# Altium integrated library National Semiconductor Switch Caps.IntLib: 108 symbols (part 1 of 3)
Pins are listed as number, name and electrical type; pins without a type are passive.

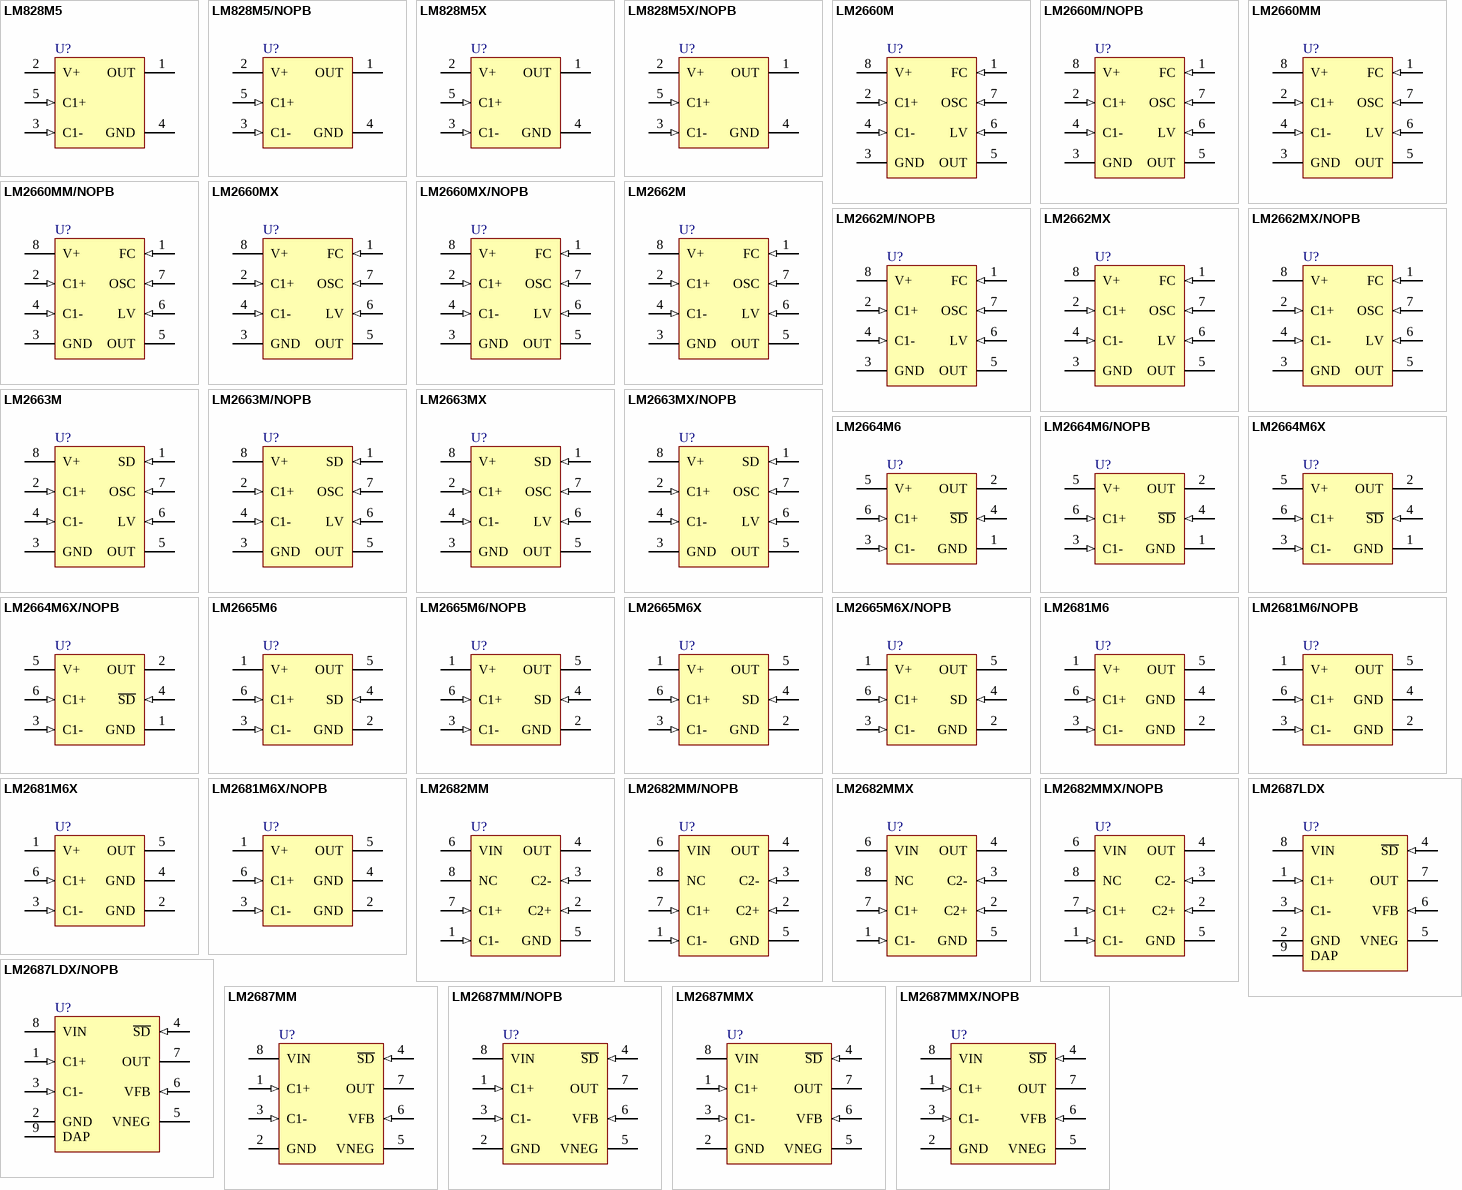
[diagram p0: symbols LM828M5 to LM2687MMX/NOPB]

## LM828M5
designator U?
Switched Capacitor Voltage Converter, 5-pin SOT-23; PartNumber: LM828M5; Manufacturer: National Semiconductor; PackageTopMarking: S08A*XTT; PowerWise: N; CompType: Switch Caps; High-Reliability: Y; DatasheetVersion: Mar-2010; PackageVersion: revD, Aug-2008; PackageReference: MF05A; PackageDescription: Molded SOT-23, .115 x .063 x .040 in Body, 5 Lead, .0375 in Pitch; RoHS: N; PinCount: 5; ComponentLink1Description: Manufacturer URL; ComponentLink1URL: http://www.national.com/; ComponentLink2Description: LM828 Datasheet; ComponentLink2URL: http://www.national.com/ds/LM/LM828.pdf; ComponentLink3Description: LM828 Web Page; ComponentLink3URL: http://www.national.com/pf/LM/LM828.html; ComponentLink4Description: MF05A Package Page; ComponentLink4URL: http://www.national.com/packaging/folders/mf05a.html
footprint MF05A_N (SOT23, 5-Leads, Body 2.9x1.6mm, Pitch 0.95mm, Lead Span 2.8mm, IPC Medium Density)
footprint MF05A_L (SOT23, 5-Leads, Body 2.9x1.6mm, Pitch 0.95mm, Lead Span 2.8mm, IPC High Density)
footprint MF05A_M (SOT23, 5-Leads, Body 2.9x1.6mm, Pitch 0.95mm, Lead Span 2.8mm, IPC Low Density)
pins: 1 OUT (power), 2 V+ (power), 3 C1- (in), 4 GND (power), 5 C1+ (in)

## LM828M5/NOPB
designator U?
Switched Capacitor Voltage Converter, 5-pin SOT-23, Pb-Free; PartNumber: LM828M5/NOPB; Manufacturer: National Semiconductor; PackageTopMarking: S08A*XTT; PowerWise: N; CompType: Switch Caps; High-Reliability: Y; DatasheetVersion: Mar-2010; PackageVersion: revD, Aug-2008; PackageReference: MF05A; PackageDescription: Molded SOT-23, .115 x .063 x .040 in Body, 5 Lead, .0375 in Pitch; RoHS: Y; PinCount: 5; ComponentLink1Description: Manufacturer URL; ComponentLink1URL: http://www.national.com/; ComponentLink2Description: LM828 Datasheet; ComponentLink2URL: http://www.national.com/ds/LM/LM828.pdf; ComponentLink3Description: LM828 Web Page; ComponentLink3URL: http://www.national.com/pf/LM/LM828.html; ComponentLink4Description: MF05A Package Page; ComponentLink4URL: http://www.national.com/packaging/folders/mf05a.html
footprint MF05A_N (SOT23, 5-Leads, Body 2.9x1.6mm, Pitch 0.95mm, Lead Span 2.8mm, IPC Medium Density)
footprint MF05A_L (SOT23, 5-Leads, Body 2.9x1.6mm, Pitch 0.95mm, Lead Span 2.8mm, IPC High Density)
footprint MF05A_M (SOT23, 5-Leads, Body 2.9x1.6mm, Pitch 0.95mm, Lead Span 2.8mm, IPC Low Density)
pins: 1 OUT (power), 2 V+ (power), 3 C1- (in), 4 GND (power), 5 C1+ (in)

## LM828M5X
designator U?
Switched Capacitor Voltage Converter, 5-pin SOT-23; PartNumber: LM828M5X; Manufacturer: National Semiconductor; PackageTopMarking: S08A*XTT; PowerWise: N; CompType: Switch Caps; High-Reliability: Y; DatasheetVersion: Mar-2010; PackageVersion: revD, Aug-2008; PackageReference: MF05A; PackageDescription: Molded SOT-23, .115 x .063 x .040 in Body, 5 Lead, .0375 in Pitch; RoHS: N; PinCount: 5; ComponentLink1Description: Manufacturer URL; ComponentLink1URL: http://www.national.com/; ComponentLink2Description: LM828 Datasheet; ComponentLink2URL: http://www.national.com/ds/LM/LM828.pdf; ComponentLink3Description: LM828 Web Page; ComponentLink3URL: http://www.national.com/pf/LM/LM828.html; ComponentLink4Description: MF05A Package Page; ComponentLink4URL: http://www.national.com/packaging/folders/mf05a.html
footprint MF05A_N (SOT23, 5-Leads, Body 2.9x1.6mm, Pitch 0.95mm, Lead Span 2.8mm, IPC Medium Density)
footprint MF05A_L (SOT23, 5-Leads, Body 2.9x1.6mm, Pitch 0.95mm, Lead Span 2.8mm, IPC High Density)
footprint MF05A_M (SOT23, 5-Leads, Body 2.9x1.6mm, Pitch 0.95mm, Lead Span 2.8mm, IPC Low Density)
pins: 1 OUT (power), 2 V+ (power), 3 C1- (in), 4 GND (power), 5 C1+ (in)

## LM828M5X/NOPB
designator U?
Switched Capacitor Voltage Converter, 5-pin SOT-23, Pb-Free; PartNumber: LM828M5X/NOPB; Manufacturer: National Semiconductor; PackageTopMarking: S08A*XTT; PowerWise: N; CompType: Switch Caps; High-Reliability: Y; DatasheetVersion: Mar-2010; PackageVersion: revD, Aug-2008; PackageReference: MF05A; PackageDescription: Molded SOT-23, .115 x .063 x .040 in Body, 5 Lead, .0375 in Pitch; RoHS: Y; PinCount: 5; ComponentLink1Description: Manufacturer URL; ComponentLink1URL: http://www.national.com/; ComponentLink2Description: LM828 Datasheet; ComponentLink2URL: http://www.national.com/ds/LM/LM828.pdf; ComponentLink3Description: LM828 Web Page; ComponentLink3URL: http://www.national.com/pf/LM/LM828.html; ComponentLink4Description: MF05A Package Page; ComponentLink4URL: http://www.national.com/packaging/folders/mf05a.html
footprint MF05A_N (SOT23, 5-Leads, Body 2.9x1.6mm, Pitch 0.95mm, Lead Span 2.8mm, IPC Medium Density)
footprint MF05A_L (SOT23, 5-Leads, Body 2.9x1.6mm, Pitch 0.95mm, Lead Span 2.8mm, IPC High Density)
footprint MF05A_M (SOT23, 5-Leads, Body 2.9x1.6mm, Pitch 0.95mm, Lead Span 2.8mm, IPC Low Density)
pins: 1 OUT (power), 2 V+ (power), 3 C1- (in), 4 GND (power), 5 C1+ (in)

## LM2660M
designator U?
Switched Capacitor Voltage Converter, 8-pin Narrow SOIC; PartNumber: LM2660M; Manufacturer: National Semiconductor; PackageTopMarking: NSZXTT*LM26*60M; PowerWise: N; CompType: Switch Caps; High-Reliability: Y; DatasheetVersion: Sep-1999; PackageVersion: revM, May-2009; PackageReference: M08A; PackageDescription: SOIC Narrow, 4.9 x 3.9 x 1.45mm, 8 Lead, 1.27mm Pitch; RoHS: N; PinCount: 8; Code_JEDEC: MS-012-AA; Code_IPC: SOIC127P600-8; ComponentLink1Description: Manufacturer URL; ComponentLink1URL: http://www.national.com/; ComponentLink2Description: LM2660 Datasheet; ComponentLink2URL: http://www.national.com/ds/LM/LM2660.pdf; ComponentLink3Description: LM2660 Web Page; ComponentLink3URL: http://www.national.com/pf/LM/LM2660.html; ComponentLink4Description: M08A Package Page; ComponentLink4URL: http://www.national.com/packaging/folders/m08a.html
footprint M08A_N (SOIC, 8-Leads, Body 4.9x3.9mm, Pitch 1.27mm, IPC Medium Density)
footprint M08A_L (SOIC, 8-Leads, Body 4.9x3.9mm, Pitch 1.27mm, IPC High Density)
footprint M08A_M (SOIC, 8-Leads, Body 4.9x3.9mm, Pitch 1.27mm, IPC Low Density)
pins: 1 FC (in), 2 C1+ (in), 3 GND (power), 4 C1- (in), 5 OUT (power), 6 LV (in), 7 OSC (in), 8 V+ (power)

## LM2660M/NOPB
designator U?
Switched Capacitor Voltage Converter, 8-pin Narrow SOIC, Pb-Free; PartNumber: LM2660M/NOPB; Manufacturer: National Semiconductor; PackageTopMarking: NSZXTT*LM26*60M; PowerWise: N; CompType: Switch Caps; High-Reliability: Y; DatasheetVersion: Sep-1999; PackageVersion: revM, May-2009; PackageReference: M08A; PackageDescription: SOIC Narrow, 4.9 x 3.9 x 1.45mm, 8 Lead, 1.27mm Pitch; RoHS: Y; PinCount: 8; Code_JEDEC: MS-012-AA; Code_IPC: SOIC127P600-8; ComponentLink1Description: Manufacturer URL; ComponentLink1URL: http://www.national.com/; ComponentLink2Description: LM2660 Datasheet; ComponentLink2URL: http://www.national.com/ds/LM/LM2660.pdf; ComponentLink3Description: LM2660 Web Page; ComponentLink3URL: http://www.national.com/pf/LM/LM2660.html; ComponentLink4Description: M08A Package Page; ComponentLink4URL: http://www.national.com/packaging/folders/m08a.html
footprint M08A_N (SOIC, 8-Leads, Body 4.9x3.9mm, Pitch 1.27mm, IPC Medium Density)
footprint M08A_L (SOIC, 8-Leads, Body 4.9x3.9mm, Pitch 1.27mm, IPC High Density)
footprint M08A_M (SOIC, 8-Leads, Body 4.9x3.9mm, Pitch 1.27mm, IPC Low Density)
pins: 1 FC (in), 2 C1+ (in), 3 GND (power), 4 C1- (in), 5 OUT (power), 6 LV (in), 7 OSC (in), 8 V+ (power)

## LM2660MM
designator U?
Switched Capacitor Voltage Converter, 8-pin Mini SOIC; PartNumber: LM2660MM; Manufacturer: National Semiconductor; PackageTopMarking: ZXTT*S01A; PowerWise: N; CompType: Switch Caps; High-Reliability: Y; DatasheetVersion: Sep-1999; PackageVersion: revF, Apr-2008; PackageReference: MUA08A; PackageDescription: MINI SOIC, .118 x .118 x .034in, 8 Lead, .0256in Pitch; RoHS: N; PinCount: 8; Code_JEDEC: MO-187-AA; ComponentLink1Description: Manufacturer URL; ComponentLink1URL: http://www.national.com/; ComponentLink2Description: LM2660 Datasheet; ComponentLink2URL: http://www.national.com/ds/LM/LM2660.pdf; ComponentLink3Description: LM2660 Web Page; ComponentLink3URL: http://www.national.com/pf/LM/LM2660.html; ComponentLink4Description: MUA08A Package Page; ComponentLink4URL: http://www.national.com/packaging/folders/mua08a.html
footprint MUA08A_N (TSOP, 8-Leads, Body 3x3mm, Pitch 0.65mm, IPC Medium Density)
footprint MUA08A_L (TSOP, 8-Leads, Body 3x3mm, Pitch 0.65mm, IPC High Density)
footprint MUA08A_M (TSOP, 8-Leads, Body 3x3mm, Pitch 0.65mm, IPC Low Density)
pins: 1 FC (in), 2 C1+ (in), 3 GND (power), 4 C1- (in), 5 OUT (power), 6 LV (in), 7 OSC (in), 8 V+ (power)

## LM2660MM/NOPB
designator U?
Switched Capacitor Voltage Converter, 8-pin Mini SOIC, Pb-Free; PartNumber: LM2660MM/NOPB; Manufacturer: National Semiconductor; PackageTopMarking: ZXTT*S01A; PowerWise: N; CompType: Switch Caps; High-Reliability: Y; DatasheetVersion: Sep-1999; PackageVersion: revF, Apr-2008; PackageReference: MUA08A; PackageDescription: MINI SOIC, .118 x .118 x .034in, 8 Lead, .0256in Pitch; RoHS: Y; PinCount: 8; Code_JEDEC: MO-187-AA; ComponentLink1Description: Manufacturer URL; ComponentLink1URL: http://www.national.com/; ComponentLink2Description: LM2660 Datasheet; ComponentLink2URL: http://www.national.com/ds/LM/LM2660.pdf; ComponentLink3Description: LM2660 Web Page; ComponentLink3URL: http://www.national.com/pf/LM/LM2660.html; ComponentLink4Description: MUA08A Package Page; ComponentLink4URL: http://www.national.com/packaging/folders/mua08a.html
footprint MUA08A_N (TSOP, 8-Leads, Body 3x3mm, Pitch 0.65mm, IPC Medium Density)
footprint MUA08A_L (TSOP, 8-Leads, Body 3x3mm, Pitch 0.65mm, IPC High Density)
footprint MUA08A_M (TSOP, 8-Leads, Body 3x3mm, Pitch 0.65mm, IPC Low Density)
pins: 1 FC (in), 2 C1+ (in), 3 GND (power), 4 C1- (in), 5 OUT (power), 6 LV (in), 7 OSC (in), 8 V+ (power)

## LM2660MX
designator U?
Switched Capacitor Voltage Converter, 8-pin Narrow SOIC; PartNumber: LM2660MX; Manufacturer: National Semiconductor; PackageTopMarking: NSZXTT*LM26*60M; PowerWise: N; CompType: Switch Caps; High-Reliability: Y; DatasheetVersion: Sep-1999; PackageVersion: revM, May-2009; PackageReference: M08A; PackageDescription: SOIC Narrow, 4.9 x 3.9 x 1.45mm, 8 Lead, 1.27mm Pitch; RoHS: N; PinCount: 8; Code_JEDEC: MS-012-AA; Code_IPC: SOIC127P600-8; ComponentLink1Description: Manufacturer URL; ComponentLink1URL: http://www.national.com/; ComponentLink2Description: LM2660 Datasheet; ComponentLink2URL: http://www.national.com/ds/LM/LM2660.pdf; ComponentLink3Description: LM2660 Web Page; ComponentLink3URL: http://www.national.com/pf/LM/LM2660.html; ComponentLink4Description: M08A Package Page; ComponentLink4URL: http://www.national.com/packaging/folders/m08a.html
footprint M08A_N (SOIC, 8-Leads, Body 4.9x3.9mm, Pitch 1.27mm, IPC Medium Density)
footprint M08A_L (SOIC, 8-Leads, Body 4.9x3.9mm, Pitch 1.27mm, IPC High Density)
footprint M08A_M (SOIC, 8-Leads, Body 4.9x3.9mm, Pitch 1.27mm, IPC Low Density)
pins: 1 FC (in), 2 C1+ (in), 3 GND (power), 4 C1- (in), 5 OUT (power), 6 LV (in), 7 OSC (in), 8 V+ (power)

## LM2660MX/NOPB
designator U?
Switched Capacitor Voltage Converter, 8-pin Narrow SOIC, Pb-Free; PartNumber: LM2660MX/NOPB; Manufacturer: National Semiconductor; PackageTopMarking: NSZXTT*LM26*60M; PowerWise: N; CompType: Switch Caps; High-Reliability: Y; DatasheetVersion: Sep-1999; PackageVersion: revM, May-2009; PackageReference: M08A; PackageDescription: SOIC Narrow, 4.9 x 3.9 x 1.45mm, 8 Lead, 1.27mm Pitch; RoHS: Y; PinCount: 8; Code_JEDEC: MS-012-AA; Code_IPC: SOIC127P600-8; ComponentLink1Description: Manufacturer URL; ComponentLink1URL: http://www.national.com/; ComponentLink2Description: LM2660 Datasheet; ComponentLink2URL: http://www.national.com/ds/LM/LM2660.pdf; ComponentLink3Description: LM2660 Web Page; ComponentLink3URL: http://www.national.com/pf/LM/LM2660.html; ComponentLink4Description: M08A Package Page; ComponentLink4URL: http://www.national.com/packaging/folders/m08a.html
footprint M08A_N (SOIC, 8-Leads, Body 4.9x3.9mm, Pitch 1.27mm, IPC Medium Density)
footprint M08A_L (SOIC, 8-Leads, Body 4.9x3.9mm, Pitch 1.27mm, IPC High Density)
footprint M08A_M (SOIC, 8-Leads, Body 4.9x3.9mm, Pitch 1.27mm, IPC Low Density)
pins: 1 FC (in), 2 C1+ (in), 3 GND (power), 4 C1- (in), 5 OUT (power), 6 LV (in), 7 OSC (in), 8 V+ (power)

## LM2662M
designator U?
Switched Capacitor Voltage Converter, 8-pin Narrow SOIC; PartNumber: LM2662M; Manufacturer: National Semiconductor; PackageTopMarking: NSZXTT*LM26*62M; PowerWise: N; CompType: Switch Caps; High-Reliability: Y; DatasheetVersion: Jun-2008; PackageVersion: revM, May-2009; PackageReference: M08A; PackageDescription: SOIC Narrow, 4.9 x 3.9 x 1.45mm, 8 Lead, 1.27mm Pitch; RoHS: N; PinCount: 8; Code_JEDEC: MS-012-AA; Code_IPC: SOIC127P600-8; ComponentLink1Description: Manufacturer URL; ComponentLink1URL: http://www.national.com/; ComponentLink2Description: LM2662 Datasheet; ComponentLink2URL: http://www.national.com/ds/LM/LM2662.pdf; ComponentLink3Description: LM2662 Web Page; ComponentLink3URL: http://www.national.com/pf/LM/LM2662.html; ComponentLink4Description: M08A Package Page; ComponentLink4URL: http://www.national.com/packaging/folders/m08a.html
footprint M08A_N (SOIC, 8-Leads, Body 4.9x3.9mm, Pitch 1.27mm, IPC Medium Density)
footprint M08A_L (SOIC, 8-Leads, Body 4.9x3.9mm, Pitch 1.27mm, IPC High Density)
footprint M08A_M (SOIC, 8-Leads, Body 4.9x3.9mm, Pitch 1.27mm, IPC Low Density)
pins: 1 FC (in), 2 C1+ (in), 3 GND (power), 4 C1- (in), 5 OUT (power), 6 LV (in), 7 OSC (in), 8 V+ (power)

## LM2662M/NOPB
designator U?
Switched Capacitor Voltage Converter, 8-pin Narrow SOIC, Pb-Free; PartNumber: LM2662M/NOPB; Manufacturer: National Semiconductor; PackageTopMarking: NSZXTT*LM26*62M; PowerWise: N; CompType: Switch Caps; High-Reliability: Y; DatasheetVersion: Jun-2008; PackageVersion: revM, May-2009; PackageReference: M08A; PackageDescription: SOIC Narrow, 4.9 x 3.9 x 1.45mm, 8 Lead, 1.27mm Pitch; RoHS: Y; PinCount: 8; Code_JEDEC: MS-012-AA; Code_IPC: SOIC127P600-8; ComponentLink1Description: Manufacturer URL; ComponentLink1URL: http://www.national.com/; ComponentLink2Description: LM2662 Datasheet; ComponentLink2URL: http://www.national.com/ds/LM/LM2662.pdf; ComponentLink3Description: LM2662 Web Page; ComponentLink3URL: http://www.national.com/pf/LM/LM2662.html; ComponentLink4Description: M08A Package Page; ComponentLink4URL: http://www.national.com/packaging/folders/m08a.html
footprint M08A_N (SOIC, 8-Leads, Body 4.9x3.9mm, Pitch 1.27mm, IPC Medium Density)
footprint M08A_L (SOIC, 8-Leads, Body 4.9x3.9mm, Pitch 1.27mm, IPC High Density)
footprint M08A_M (SOIC, 8-Leads, Body 4.9x3.9mm, Pitch 1.27mm, IPC Low Density)
pins: 1 FC (in), 2 C1+ (in), 3 GND (power), 4 C1- (in), 5 OUT (power), 6 LV (in), 7 OSC (in), 8 V+ (power)

## LM2662MX
designator U?
Switched Capacitor Voltage Converter, 8-pin Narrow SOIC; PartNumber: LM2662MX; Manufacturer: National Semiconductor; PackageTopMarking: NSZXTT*LM26*62M; PowerWise: N; CompType: Switch Caps; High-Reliability: Y; DatasheetVersion: Jun-2008; PackageVersion: revM, May-2009; PackageReference: M08A; PackageDescription: SOIC Narrow, 4.9 x 3.9 x 1.45mm, 8 Lead, 1.27mm Pitch; RoHS: N; PinCount: 8; Code_JEDEC: MS-012-AA; Code_IPC: SOIC127P600-8; ComponentLink1Description: Manufacturer URL; ComponentLink1URL: http://www.national.com/; ComponentLink2Description: LM2662 Datasheet; ComponentLink2URL: http://www.national.com/ds/LM/LM2662.pdf; ComponentLink3Description: LM2662 Web Page; ComponentLink3URL: http://www.national.com/pf/LM/LM2662.html; ComponentLink4Description: M08A Package Page; ComponentLink4URL: http://www.national.com/packaging/folders/m08a.html
footprint M08A_N (SOIC, 8-Leads, Body 4.9x3.9mm, Pitch 1.27mm, IPC Medium Density)
footprint M08A_L (SOIC, 8-Leads, Body 4.9x3.9mm, Pitch 1.27mm, IPC High Density)
footprint M08A_M (SOIC, 8-Leads, Body 4.9x3.9mm, Pitch 1.27mm, IPC Low Density)
pins: 1 FC (in), 2 C1+ (in), 3 GND (power), 4 C1- (in), 5 OUT (power), 6 LV (in), 7 OSC (in), 8 V+ (power)

## LM2662MX/NOPB
designator U?
Switched Capacitor Voltage Converter, 8-pin Narrow SOIC, Pb-Free; PartNumber: LM2662MX/NOPB; Manufacturer: National Semiconductor; PackageTopMarking: NSZXTT*LM26*62M; PowerWise: N; CompType: Switch Caps; High-Reliability: Y; DatasheetVersion: Jun-2008; PackageVersion: revM, May-2009; PackageReference: M08A; PackageDescription: SOIC Narrow, 4.9 x 3.9 x 1.45mm, 8 Lead, 1.27mm Pitch; RoHS: Y; PinCount: 8; Code_JEDEC: MS-012-AA; Code_IPC: SOIC127P600-8; ComponentLink1Description: Manufacturer URL; ComponentLink1URL: http://www.national.com/; ComponentLink2Description: LM2662 Datasheet; ComponentLink2URL: http://www.national.com/ds/LM/LM2662.pdf; ComponentLink3Description: LM2662 Web Page; ComponentLink3URL: http://www.national.com/pf/LM/LM2662.html; ComponentLink4Description: M08A Package Page; ComponentLink4URL: http://www.national.com/packaging/folders/m08a.html
footprint M08A_N (SOIC, 8-Leads, Body 4.9x3.9mm, Pitch 1.27mm, IPC Medium Density)
footprint M08A_L (SOIC, 8-Leads, Body 4.9x3.9mm, Pitch 1.27mm, IPC High Density)
footprint M08A_M (SOIC, 8-Leads, Body 4.9x3.9mm, Pitch 1.27mm, IPC Low Density)
pins: 1 FC (in), 2 C1+ (in), 3 GND (power), 4 C1- (in), 5 OUT (power), 6 LV (in), 7 OSC (in), 8 V+ (power)

## LM2663M
designator U?
Switched Capacitor Voltage Converter, 8-pin Narrow SOIC; PartNumber: LM2663M; Manufacturer: National Semiconductor; PackageTopMarking: NSZXTT*LM26*63M; PowerWise: N; CompType: Switch Caps; High-Reliability: Y; DatasheetVersion: Jun-2008; PackageVersion: revM, May-2009; PackageReference: M08A; PackageDescription: SOIC Narrow, 4.9 x 3.9 x 1.45mm, 8 Lead, 1.27mm Pitch; RoHS: N; PinCount: 8; Code_JEDEC: MS-012-AA; Code_IPC: SOIC127P600-8; ComponentLink1Description: Manufacturer URL; ComponentLink1URL: http://www.national.com/; ComponentLink2Description: LM2663 Datasheet; ComponentLink2URL: http://www.national.com/ds/LM/LM2663.pdf; ComponentLink3Description: LM2663 Web Page; ComponentLink3URL: http://www.national.com/pf/LM/LM2663.html; ComponentLink4Description: M08A Package Page; ComponentLink4URL: http://www.national.com/packaging/folders/m08a.html
footprint M08A_N (SOIC, 8-Leads, Body 4.9x3.9mm, Pitch 1.27mm, IPC Medium Density)
footprint M08A_L (SOIC, 8-Leads, Body 4.9x3.9mm, Pitch 1.27mm, IPC High Density)
footprint M08A_M (SOIC, 8-Leads, Body 4.9x3.9mm, Pitch 1.27mm, IPC Low Density)
pins: 1 SD (in), 2 C1+ (in), 3 GND (power), 4 C1- (in), 5 OUT (power), 6 LV (in), 7 OSC (in), 8 V+ (power)

## LM2663M/NOPB
designator U?
Switched Capacitor Voltage Converter, 8-pin Narrow SOIC, Pb-Free; PartNumber: LM2663M/NOPB; Manufacturer: National Semiconductor; PackageTopMarking: NSZXTT*LM26*63M; PowerWise: N; CompType: Switch Caps; High-Reliability: Y; DatasheetVersion: Jun-2008; PackageVersion: revM, May-2009; PackageReference: M08A; PackageDescription: SOIC Narrow, 4.9 x 3.9 x 1.45mm, 8 Lead, 1.27mm Pitch; RoHS: Y; PinCount: 8; Code_JEDEC: MS-012-AA; Code_IPC: SOIC127P600-8; ComponentLink1Description: Manufacturer URL; ComponentLink1URL: http://www.national.com/; ComponentLink2Description: LM2663 Datasheet; ComponentLink2URL: http://www.national.com/ds/LM/LM2663.pdf; ComponentLink3Description: LM2663 Web Page; ComponentLink3URL: http://www.national.com/pf/LM/LM2663.html; ComponentLink4Description: M08A Package Page; ComponentLink4URL: http://www.national.com/packaging/folders/m08a.html
footprint M08A_N (SOIC, 8-Leads, Body 4.9x3.9mm, Pitch 1.27mm, IPC Medium Density)
footprint M08A_L (SOIC, 8-Leads, Body 4.9x3.9mm, Pitch 1.27mm, IPC High Density)
footprint M08A_M (SOIC, 8-Leads, Body 4.9x3.9mm, Pitch 1.27mm, IPC Low Density)
pins: 1 SD (in), 2 C1+ (in), 3 GND (power), 4 C1- (in), 5 OUT (power), 6 LV (in), 7 OSC (in), 8 V+ (power)

## LM2663MX
designator U?
Switched Capacitor Voltage Converter, 8-pin Narrow SOIC; PartNumber: LM2663MX; Manufacturer: National Semiconductor; PackageTopMarking: NSZXTT*LM26*63M; PowerWise: N; CompType: Switch Caps; High-Reliability: Y; DatasheetVersion: Jun-2008; PackageVersion: revM, May-2009; PackageReference: M08A; PackageDescription: SOIC Narrow, 4.9 x 3.9 x 1.45mm, 8 Lead, 1.27mm Pitch; RoHS: N; PinCount: 8; Code_JEDEC: MS-012-AA; Code_IPC: SOIC127P600-8; ComponentLink1Description: Manufacturer URL; ComponentLink1URL: http://www.national.com/; ComponentLink2Description: LM2663 Datasheet; ComponentLink2URL: http://www.national.com/ds/LM/LM2663.pdf; ComponentLink3Description: LM2663 Web Page; ComponentLink3URL: http://www.national.com/pf/LM/LM2663.html; ComponentLink4Description: M08A Package Page; ComponentLink4URL: http://www.national.com/packaging/folders/m08a.html
footprint M08A_N (SOIC, 8-Leads, Body 4.9x3.9mm, Pitch 1.27mm, IPC Medium Density)
footprint M08A_L (SOIC, 8-Leads, Body 4.9x3.9mm, Pitch 1.27mm, IPC High Density)
footprint M08A_M (SOIC, 8-Leads, Body 4.9x3.9mm, Pitch 1.27mm, IPC Low Density)
pins: 1 SD (in), 2 C1+ (in), 3 GND (power), 4 C1- (in), 5 OUT (power), 6 LV (in), 7 OSC (in), 8 V+ (power)

## LM2663MX/NOPB
designator U?
Switched Capacitor Voltage Converter, 8-pin Narrow SOIC, Pb-Free; PartNumber: LM2663MX/NOPB; Manufacturer: National Semiconductor; PackageTopMarking: NSZXTT*LM26*63M; PowerWise: N; CompType: Switch Caps; High-Reliability: Y; DatasheetVersion: Jun-2008; PackageVersion: revM, May-2009; PackageReference: M08A; PackageDescription: SOIC Narrow, 4.9 x 3.9 x 1.45mm, 8 Lead, 1.27mm Pitch; RoHS: Y; PinCount: 8; Code_JEDEC: MS-012-AA; Code_IPC: SOIC127P600-8; ComponentLink1Description: Manufacturer URL; ComponentLink1URL: http://www.national.com/; ComponentLink2Description: LM2663 Datasheet; ComponentLink2URL: http://www.national.com/ds/LM/LM2663.pdf; ComponentLink3Description: LM2663 Web Page; ComponentLink3URL: http://www.national.com/pf/LM/LM2663.html; ComponentLink4Description: M08A Package Page; ComponentLink4URL: http://www.national.com/packaging/folders/m08a.html
footprint M08A_N (SOIC, 8-Leads, Body 4.9x3.9mm, Pitch 1.27mm, IPC Medium Density)
footprint M08A_L (SOIC, 8-Leads, Body 4.9x3.9mm, Pitch 1.27mm, IPC High Density)
footprint M08A_M (SOIC, 8-Leads, Body 4.9x3.9mm, Pitch 1.27mm, IPC Low Density)
pins: 1 SD (in), 2 C1+ (in), 3 GND (power), 4 C1- (in), 5 OUT (power), 6 LV (in), 7 OSC (in), 8 V+ (power)

## LM2664M6
designator U?
Switched Capacitor Voltage Converter, 6-pin SOT-23; PartNumber: LM2664M6; Manufacturer: National Semiconductor; PackageTopMarking: S03A*XTT; PowerWise: N; CompType: Switch Caps; High-Reliability: Y; DatasheetVersion: Sep-2005; PackageVersion: revC, Sep-2005; PackageReference: MF06A; PackageDescription: Molded SOT-23, .115 x .063 x .040in Body, 6 Lead, .0375in in Pitch; RoHS: N; PinCount: 6; Code_JEDEC: MO-178-AB; Code_IPC: SOT26A-6; ComponentLink1Description: Manufacturer URL; ComponentLink1URL: http://www.national.com/; ComponentLink2Description: LM2664 Datasheet; ComponentLink2URL: http://www.national.com/ds/LM/LM2664.pdf; ComponentLink3Description: LM2664 Web Page; ComponentLink3URL: http://www.national.com/pf/LM/LM2664.html; ComponentLink4Description: MF06A Package Page; ComponentLink4URL: http://www.national.com/packaging/folders/mf06a.html
footprint MF06A_N (SOT23, 6-Leads, Body 2.9x1.6mm, Pitch 0.95mm, Lead Span 2.8mm, IPC Medium Density)
footprint MF06A_L (SOT23, 6-Leads, Body 2.9x1.6mm, Pitch 0.95mm, Lead Span 2.8mm, IPC High Density)
footprint MF06A_M (SOT23, 6-Leads, Body 2.9x1.6mm, Pitch 0.95mm, Lead Span 2.8mm, IPC Low Density)
pins: 1 GND (power), 2 OUT (power), 3 C1- (in), 4 ~{SD} (in), 5 V+ (power), 6 C1+ (in)

## LM2664M6/NOPB
designator U?
Switched Capacitor Voltage Converter, 6-pin SOT-23, Pb-Free; PartNumber: LM2664M6/NOPB; Manufacturer: National Semiconductor; PackageTopMarking: S03A*XTT; PowerWise: N; CompType: Switch Caps; High-Reliability: Y; DatasheetVersion: Sep-2005; PackageVersion: revC, Sep-2005; PackageReference: MF06A; PackageDescription: Molded SOT-23, .115 x .063 x .040in Body, 6 Lead, .0375in in Pitch; RoHS: Y; PinCount: 6; Code_JEDEC: MO-178-AB; Code_IPC: SOT26A-6; ComponentLink1Description: Manufacturer URL; ComponentLink1URL: http://www.national.com/; ComponentLink2Description: LM2664 Datasheet; ComponentLink2URL: http://www.national.com/ds/LM/LM2664.pdf; ComponentLink3Description: LM2664 Web Page; ComponentLink3URL: http://www.national.com/pf/LM/LM2664.html; ComponentLink4Description: MF06A Package Page; ComponentLink4URL: http://www.national.com/packaging/folders/mf06a.html
footprint MF06A_N (SOT23, 6-Leads, Body 2.9x1.6mm, Pitch 0.95mm, Lead Span 2.8mm, IPC Medium Density)
footprint MF06A_L (SOT23, 6-Leads, Body 2.9x1.6mm, Pitch 0.95mm, Lead Span 2.8mm, IPC High Density)
footprint MF06A_M (SOT23, 6-Leads, Body 2.9x1.6mm, Pitch 0.95mm, Lead Span 2.8mm, IPC Low Density)
pins: 1 GND (power), 2 OUT (power), 3 C1- (in), 4 ~{SD} (in), 5 V+ (power), 6 C1+ (in)

## LM2664M6X
designator U?
Switched Capacitor Voltage Converter, 6-pin SOT-23; PartNumber: LM2664M6X; Manufacturer: National Semiconductor; PackageTopMarking: S03A*XTT; PowerWise: N; CompType: Switch Caps; High-Reliability: Y; DatasheetVersion: Sep-2005; PackageVersion: revC, Sep-2005; PackageReference: MF06A; PackageDescription: Molded SOT-23, .115 x .063 x .040in Body, 6 Lead, .0375in in Pitch; RoHS: N; PinCount: 6; Code_JEDEC: MO-178-AB; Code_IPC: SOT26A-6; ComponentLink1Description: Manufacturer URL; ComponentLink1URL: http://www.national.com/; ComponentLink2Description: LM2664 Datasheet; ComponentLink2URL: http://www.national.com/ds/LM/LM2664.pdf; ComponentLink3Description: LM2664 Web Page; ComponentLink3URL: http://www.national.com/pf/LM/LM2664.html; ComponentLink4Description: MF06A Package Page; ComponentLink4URL: http://www.national.com/packaging/folders/mf06a.html
footprint MF06A_N (SOT23, 6-Leads, Body 2.9x1.6mm, Pitch 0.95mm, Lead Span 2.8mm, IPC Medium Density)
footprint MF06A_L (SOT23, 6-Leads, Body 2.9x1.6mm, Pitch 0.95mm, Lead Span 2.8mm, IPC High Density)
footprint MF06A_M (SOT23, 6-Leads, Body 2.9x1.6mm, Pitch 0.95mm, Lead Span 2.8mm, IPC Low Density)
pins: 1 GND (power), 2 OUT (power), 3 C1- (in), 4 ~{SD} (in), 5 V+ (power), 6 C1+ (in)

## LM2664M6X/NOPB
designator U?
Switched Capacitor Voltage Converter, 6-pin SOT-23, Pb-Free; PartNumber: LM2664M6X/NOPB; Manufacturer: National Semiconductor; PackageTopMarking: S03A*XTT; PowerWise: N; CompType: Switch Caps; High-Reliability: Y; DatasheetVersion: Sep-2005; PackageVersion: revC, Sep-2005; PackageReference: MF06A; PackageDescription: Molded SOT-23, .115 x .063 x .040in Body, 6 Lead, .0375in in Pitch; RoHS: Y; PinCount: 6; Code_JEDEC: MO-178-AB; Code_IPC: SOT26A-6; ComponentLink1Description: Manufacturer URL; ComponentLink1URL: http://www.national.com/; ComponentLink2Description: LM2664 Datasheet; ComponentLink2URL: http://www.national.com/ds/LM/LM2664.pdf; ComponentLink3Description: LM2664 Web Page; ComponentLink3URL: http://www.national.com/pf/LM/LM2664.html; ComponentLink4Description: MF06A Package Page; ComponentLink4URL: http://www.national.com/packaging/folders/mf06a.html
footprint MF06A_N (SOT23, 6-Leads, Body 2.9x1.6mm, Pitch 0.95mm, Lead Span 2.8mm, IPC Medium Density)
footprint MF06A_L (SOT23, 6-Leads, Body 2.9x1.6mm, Pitch 0.95mm, Lead Span 2.8mm, IPC High Density)
footprint MF06A_M (SOT23, 6-Leads, Body 2.9x1.6mm, Pitch 0.95mm, Lead Span 2.8mm, IPC Low Density)
pins: 1 GND (power), 2 OUT (power), 3 C1- (in), 4 ~{SD} (in), 5 V+ (power), 6 C1+ (in)

## LM2665M6
designator U?
Switched Capacitor Voltage Converter, 6-pin SOT-23; PartNumber: LM2665M6; Manufacturer: National Semiconductor; PackageTopMarking: S04A*XTT; PowerWise: N; CompType: Switch Caps; High-Reliability: Y; DatasheetVersion: Sep-2005; PackageVersion: revC, Sep-2005; PackageReference: MF06A; PackageDescription: Molded SOT-23, .115 x .063 x .040in Body, 6 Lead, .0375in in Pitch; RoHS: N; PinCount: 6; Code_JEDEC: MO-178-AB; Code_IPC: SOT26A-6; ComponentLink1Description: Manufacturer URL; ComponentLink1URL: http://www.national.com/; ComponentLink2Description: LM2665 Datasheet; ComponentLink2URL: http://www.national.com/ds/LM/LM2665.pdf; ComponentLink3Description: LM2665 Web Page; ComponentLink3URL: http://www.national.com/pf/LM/LM2665.html; ComponentLink4Description: MF06A Package Page; ComponentLink4URL: http://www.national.com/packaging/folders/mf06a.html
footprint MF06A_N (SOT23, 6-Leads, Body 2.9x1.6mm, Pitch 0.95mm, Lead Span 2.8mm, IPC Medium Density)
footprint MF06A_L (SOT23, 6-Leads, Body 2.9x1.6mm, Pitch 0.95mm, Lead Span 2.8mm, IPC High Density)
footprint MF06A_M (SOT23, 6-Leads, Body 2.9x1.6mm, Pitch 0.95mm, Lead Span 2.8mm, IPC Low Density)
pins: 1 V+ (power), 2 GND (power), 3 C1- (in), 4 SD (in), 5 OUT (power), 6 C1+ (in)

## LM2665M6/NOPB
designator U?
Switched Capacitor Voltage Converter, 6-pin SOT-23, Pb-Free; PartNumber: LM2665M6/NOPB; Manufacturer: National Semiconductor; PackageTopMarking: S04A*XTT; PowerWise: N; CompType: Switch Caps; High-Reliability: Y; DatasheetVersion: Sep-2005; PackageVersion: revC, Sep-2005; PackageReference: MF06A; PackageDescription: Molded SOT-23, .115 x .063 x .040in Body, 6 Lead, .0375in in Pitch; RoHS: Y; PinCount: 6; Code_JEDEC: MO-178-AB; Code_IPC: SOT26A-6; ComponentLink1Description: Manufacturer URL; ComponentLink1URL: http://www.national.com/; ComponentLink2Description: LM2665 Datasheet; ComponentLink2URL: http://www.national.com/ds/LM/LM2665.pdf; ComponentLink3Description: LM2665 Web Page; ComponentLink3URL: http://www.national.com/pf/LM/LM2665.html; ComponentLink4Description: MF06A Package Page; ComponentLink4URL: http://www.national.com/packaging/folders/mf06a.html
footprint MF06A_N (SOT23, 6-Leads, Body 2.9x1.6mm, Pitch 0.95mm, Lead Span 2.8mm, IPC Medium Density)
footprint MF06A_L (SOT23, 6-Leads, Body 2.9x1.6mm, Pitch 0.95mm, Lead Span 2.8mm, IPC High Density)
footprint MF06A_M (SOT23, 6-Leads, Body 2.9x1.6mm, Pitch 0.95mm, Lead Span 2.8mm, IPC Low Density)
pins: 1 V+ (power), 2 GND (power), 3 C1- (in), 4 SD (in), 5 OUT (power), 6 C1+ (in)

## LM2665M6X
designator U?
Switched Capacitor Voltage Converter, 6-pin SOT-23; PartNumber: LM2665M6X; Manufacturer: National Semiconductor; PackageTopMarking: S04A*XTT; PowerWise: N; CompType: Switch Caps; High-Reliability: Y; DatasheetVersion: Sep-2005; PackageVersion: revC, Sep-2005; PackageReference: MF06A; PackageDescription: Molded SOT-23, .115 x .063 x .040in Body, 6 Lead, .0375in in Pitch; RoHS: N; PinCount: 6; Code_JEDEC: MO-178-AB; Code_IPC: SOT26A-6; ComponentLink1Description: Manufacturer URL; ComponentLink1URL: http://www.national.com/; ComponentLink2Description: LM2665 Datasheet; ComponentLink2URL: http://www.national.com/ds/LM/LM2665.pdf; ComponentLink3Description: LM2665 Web Page; ComponentLink3URL: http://www.national.com/pf/LM/LM2665.html; ComponentLink4Description: MF06A Package Page; ComponentLink4URL: http://www.national.com/packaging/folders/mf06a.html
footprint MF06A_N (SOT23, 6-Leads, Body 2.9x1.6mm, Pitch 0.95mm, Lead Span 2.8mm, IPC Medium Density)
footprint MF06A_L (SOT23, 6-Leads, Body 2.9x1.6mm, Pitch 0.95mm, Lead Span 2.8mm, IPC High Density)
footprint MF06A_M (SOT23, 6-Leads, Body 2.9x1.6mm, Pitch 0.95mm, Lead Span 2.8mm, IPC Low Density)
pins: 1 V+ (power), 2 GND (power), 3 C1- (in), 4 SD (in), 5 OUT (power), 6 C1+ (in)

## LM2665M6X/NOPB
designator U?
Switched Capacitor Voltage Converter, 6-pin SOT-23, Pb-Free; PartNumber: LM2665M6X/NOPB; Manufacturer: National Semiconductor; PackageTopMarking: S04A*XTT; PowerWise: N; CompType: Switch Caps; High-Reliability: Y; DatasheetVersion: Sep-2005; PackageVersion: revC, Sep-2005; PackageReference: MF06A; PackageDescription: Molded SOT-23, .115 x .063 x .040in Body, 6 Lead, .0375in in Pitch; RoHS: Y; PinCount: 6; Code_JEDEC: MO-178-AB; Code_IPC: SOT26A-6; ComponentLink1Description: Manufacturer URL; ComponentLink1URL: http://www.national.com/; ComponentLink2Description: LM2665 Datasheet; ComponentLink2URL: http://www.national.com/ds/LM/LM2665.pdf; ComponentLink3Description: LM2665 Web Page; ComponentLink3URL: http://www.national.com/pf/LM/LM2665.html; ComponentLink4Description: MF06A Package Page; ComponentLink4URL: http://www.national.com/packaging/folders/mf06a.html
footprint MF06A_N (SOT23, 6-Leads, Body 2.9x1.6mm, Pitch 0.95mm, Lead Span 2.8mm, IPC Medium Density)
footprint MF06A_L (SOT23, 6-Leads, Body 2.9x1.6mm, Pitch 0.95mm, Lead Span 2.8mm, IPC High Density)
footprint MF06A_M (SOT23, 6-Leads, Body 2.9x1.6mm, Pitch 0.95mm, Lead Span 2.8mm, IPC Low Density)
pins: 1 V+ (power), 2 GND (power), 3 C1- (in), 4 SD (in), 5 OUT (power), 6 C1+ (in)

## LM2681M6
designator U?
Switched Capacitor Voltage Converter, 6-pin SOT-23; PartNumber: LM2681M6; Manufacturer: National Semiconductor; PackageTopMarking: S10A*XTT; PowerWise: N; CompType: Switch Caps; High-Reliability: Y; DatasheetVersion: Jan-2003; PackageVersion: revC, Sep-2005; PackageReference: MF06A; PackageDescription: Molded SOT-23, .115 x .063 x .040in Body, 6 Lead, .0375in in Pitch; RoHS: N; PinCount: 6; Code_JEDEC: MO-178-AB; Code_IPC: SOT26A-6; ComponentLink1Description: Manufacturer URL; ComponentLink1URL: http://www.national.com/; ComponentLink2Description: LM2681 Datasheet; ComponentLink2URL: http://www.national.com/ds/LM/LM2681.pdf; ComponentLink3Description: LM2681 Web Page; ComponentLink3URL: http://www.national.com/pf/LM/LM2681.html; ComponentLink4Description: MF06A Package Page; ComponentLink4URL: http://www.national.com/packaging/folders/mf06a.html
footprint MF06A_N (SOT23, 6-Leads, Body 2.9x1.6mm, Pitch 0.95mm, Lead Span 2.8mm, IPC Medium Density)
footprint MF06A_L (SOT23, 6-Leads, Body 2.9x1.6mm, Pitch 0.95mm, Lead Span 2.8mm, IPC High Density)
footprint MF06A_M (SOT23, 6-Leads, Body 2.9x1.6mm, Pitch 0.95mm, Lead Span 2.8mm, IPC Low Density)
pins: 1 V+ (power), 2 GND (power), 3 C1- (in), 4 GND (power), 5 OUT (power), 6 C1+ (in)

## LM2681M6/NOPB
designator U?
Switched Capacitor Voltage Converter, 6-pin SOT-23, Pb-Free; PartNumber: LM2681M6/NOPB; Manufacturer: National Semiconductor; PackageTopMarking: S10A*XTT; PowerWise: N; CompType: Switch Caps; High-Reliability: Y; DatasheetVersion: Jan-2003; PackageVersion: revC, Sep-2005; PackageReference: MF06A; PackageDescription: Molded SOT-23, .115 x .063 x .040in Body, 6 Lead, .0375in in Pitch; RoHS: Y; PinCount: 6; Code_JEDEC: MO-178-AB; Code_IPC: SOT26A-6; ComponentLink1Description: Manufacturer URL; ComponentLink1URL: http://www.national.com/; ComponentLink2Description: LM2681 Datasheet; ComponentLink2URL: http://www.national.com/ds/LM/LM2681.pdf; ComponentLink3Description: LM2681 Web Page; ComponentLink3URL: http://www.national.com/pf/LM/LM2681.html; ComponentLink4Description: MF06A Package Page; ComponentLink4URL: http://www.national.com/packaging/folders/mf06a.html
footprint MF06A_N (SOT23, 6-Leads, Body 2.9x1.6mm, Pitch 0.95mm, Lead Span 2.8mm, IPC Medium Density)
footprint MF06A_L (SOT23, 6-Leads, Body 2.9x1.6mm, Pitch 0.95mm, Lead Span 2.8mm, IPC High Density)
footprint MF06A_M (SOT23, 6-Leads, Body 2.9x1.6mm, Pitch 0.95mm, Lead Span 2.8mm, IPC Low Density)
pins: 1 V+ (power), 2 GND (power), 3 C1- (in), 4 GND (power), 5 OUT (power), 6 C1+ (in)

## LM2681M6X
designator U?
Switched Capacitor Voltage Converter, 6-pin SOT-23; PartNumber: LM2681M6X; Manufacturer: National Semiconductor; PackageTopMarking: S10A*XTT; PowerWise: N; CompType: Switch Caps; High-Reliability: Y; DatasheetVersion: Jan-2003; PackageVersion: revC, Sep-2005; PackageReference: MF06A; PackageDescription: Molded SOT-23, .115 x .063 x .040in Body, 6 Lead, .0375in in Pitch; RoHS: N; PinCount: 6; Code_JEDEC: MO-178-AB; Code_IPC: SOT26A-6; ComponentLink1Description: Manufacturer URL; ComponentLink1URL: http://www.national.com/; ComponentLink2Description: LM2681 Datasheet; ComponentLink2URL: http://www.national.com/ds/LM/LM2681.pdf; ComponentLink3Description: LM2681 Web Page; ComponentLink3URL: http://www.national.com/pf/LM/LM2681.html; ComponentLink4Description: MF06A Package Page; ComponentLink4URL: http://www.national.com/packaging/folders/mf06a.html
footprint MF06A_N (SOT23, 6-Leads, Body 2.9x1.6mm, Pitch 0.95mm, Lead Span 2.8mm, IPC Medium Density)
footprint MF06A_L (SOT23, 6-Leads, Body 2.9x1.6mm, Pitch 0.95mm, Lead Span 2.8mm, IPC High Density)
footprint MF06A_M (SOT23, 6-Leads, Body 2.9x1.6mm, Pitch 0.95mm, Lead Span 2.8mm, IPC Low Density)
pins: 1 V+ (power), 2 GND (power), 3 C1- (in), 4 GND (power), 5 OUT (power), 6 C1+ (in)

## LM2681M6X/NOPB
designator U?
Switched Capacitor Voltage Converter, 6-pin SOT-23, Pb-Free; PartNumber: LM2681M6X/NOPB; Manufacturer: National Semiconductor; PackageTopMarking: S10A*XTT; PowerWise: N; CompType: Switch Caps; High-Reliability: Y; DatasheetVersion: Jan-2003; PackageVersion: revC, Sep-2005; PackageReference: MF06A; PackageDescription: Molded SOT-23, .115 x .063 x .040in Body, 6 Lead, .0375in in Pitch; RoHS: Y; PinCount: 6; Code_JEDEC: MO-178-AB; Code_IPC: SOT26A-6; ComponentLink1Description: Manufacturer URL; ComponentLink1URL: http://www.national.com/; ComponentLink2Description: LM2681 Datasheet; ComponentLink2URL: http://www.national.com/ds/LM/LM2681.pdf; ComponentLink3Description: LM2681 Web Page; ComponentLink3URL: http://www.national.com/pf/LM/LM2681.html; ComponentLink4Description: MF06A Package Page; ComponentLink4URL: http://www.national.com/packaging/folders/mf06a.html
footprint MF06A_N (SOT23, 6-Leads, Body 2.9x1.6mm, Pitch 0.95mm, Lead Span 2.8mm, IPC Medium Density)
footprint MF06A_L (SOT23, 6-Leads, Body 2.9x1.6mm, Pitch 0.95mm, Lead Span 2.8mm, IPC High Density)
footprint MF06A_M (SOT23, 6-Leads, Body 2.9x1.6mm, Pitch 0.95mm, Lead Span 2.8mm, IPC Low Density)
pins: 1 V+ (power), 2 GND (power), 3 C1- (in), 4 GND (power), 5 OUT (power), 6 C1+ (in)

## LM2682MM
designator U?
Switched Capacitor Voltage Doubling Inverter, 8-pin Mini SOIC; PartNumber: LM2682MM; Manufacturer: National Semiconductor; PackageTopMarking: ZXTT*S11A; PowerWise: N; CompType: Switch Caps; High-Reliability: Y; DatasheetVersion: Nov-1999; PackageVersion: revF, Apr-2008; PackageReference: MUA08A; PackageDescription: MINI SOIC, .118 x .118 x .034in, 8 Lead, .0256in Pitch; RoHS: N; PinCount: 8; Code_JEDEC: MO-187-AA; ComponentLink1Description: Manufacturer URL; ComponentLink1URL: http://www.national.com/; ComponentLink2Description: LM2682 Datasheet; ComponentLink2URL: http://www.national.com/ds/LM/LM2682.pdf; ComponentLink3Description: LM2682 Web Page; ComponentLink3URL: http://www.national.com/pf/LM/LM2682.html; ComponentLink4Description: MUA08A Package Page; ComponentLink4URL: http://www.national.com/packaging/folders/mua08a.html
footprint MUA08A_N (TSOP, 8-Leads, Body 3x3mm, Pitch 0.65mm, IPC Medium Density)
footprint MUA08A_L (TSOP, 8-Leads, Body 3x3mm, Pitch 0.65mm, IPC High Density)
footprint MUA08A_M (TSOP, 8-Leads, Body 3x3mm, Pitch 0.65mm, IPC Low Density)
pins: 1 C1- (in), 2 C2+ (in), 3 C2- (in), 4 OUT (power), 5 GND (power), 6 VIN (power), 7 C1+ (in), 8 NC

## LM2682MM/NOPB
designator U?
Switched Capacitor Voltage Doubling Inverter, 8-pin Mini SOIC, Pb-Free; PartNumber: LM2682MM/NOPB; Manufacturer: National Semiconductor; PackageTopMarking: ZXTT*S11A; PowerWise: N; CompType: Switch Caps; High-Reliability: Y; DatasheetVersion: Nov-1999; PackageVersion: revF, Apr-2008; PackageReference: MUA08A; PackageDescription: MINI SOIC, .118 x .118 x .034in, 8 Lead, .0256in Pitch; RoHS: Y; PinCount: 8; Code_JEDEC: MO-187-AA; ComponentLink1Description: Manufacturer URL; ComponentLink1URL: http://www.national.com/; ComponentLink2Description: LM2682 Datasheet; ComponentLink2URL: http://www.national.com/ds/LM/LM2682.pdf; ComponentLink3Description: LM2682 Web Page; ComponentLink3URL: http://www.national.com/pf/LM/LM2682.html; ComponentLink4Description: MUA08A Package Page; ComponentLink4URL: http://www.national.com/packaging/folders/mua08a.html
footprint MUA08A_N (TSOP, 8-Leads, Body 3x3mm, Pitch 0.65mm, IPC Medium Density)
footprint MUA08A_L (TSOP, 8-Leads, Body 3x3mm, Pitch 0.65mm, IPC High Density)
footprint MUA08A_M (TSOP, 8-Leads, Body 3x3mm, Pitch 0.65mm, IPC Low Density)
pins: 1 C1- (in), 2 C2+ (in), 3 C2- (in), 4 OUT (power), 5 GND (power), 6 VIN (power), 7 C1+ (in), 8 NC

## LM2682MMX
designator U?
Switched Capacitor Voltage Doubling Inverter, 8-pin Mini SOIC; PartNumber: LM2682MMX; Manufacturer: National Semiconductor; PackageTopMarking: ZXTT*S11A; PowerWise: N; CompType: Switch Caps; High-Reliability: Y; DatasheetVersion: Nov-1999; PackageVersion: revF, Apr-2008; PackageReference: MUA08A; PackageDescription: MINI SOIC, .118 x .118 x .034in, 8 Lead, .0256in Pitch; RoHS: N; PinCount: 8; Code_JEDEC: MO-187-AA; ComponentLink1Description: Manufacturer URL; ComponentLink1URL: http://www.national.com/; ComponentLink2Description: LM2682 Datasheet; ComponentLink2URL: http://www.national.com/ds/LM/LM2682.pdf; ComponentLink3Description: LM2682 Web Page; ComponentLink3URL: http://www.national.com/pf/LM/LM2682.html; ComponentLink4Description: MUA08A Package Page; ComponentLink4URL: http://www.national.com/packaging/folders/mua08a.html
footprint MUA08A_N (TSOP, 8-Leads, Body 3x3mm, Pitch 0.65mm, IPC Medium Density)
footprint MUA08A_L (TSOP, 8-Leads, Body 3x3mm, Pitch 0.65mm, IPC High Density)
footprint MUA08A_M (TSOP, 8-Leads, Body 3x3mm, Pitch 0.65mm, IPC Low Density)
pins: 1 C1- (in), 2 C2+ (in), 3 C2- (in), 4 OUT (power), 5 GND (power), 6 VIN (power), 7 C1+ (in), 8 NC

## LM2682MMX/NOPB
designator U?
Switched Capacitor Voltage Doubling Inverter, 8-pin Mini SOIC, Pb-Free; PartNumber: LM2682MMX/NOPB; Manufacturer: National Semiconductor; PackageTopMarking: ZXTT*S11A; PowerWise: N; CompType: Switch Caps; High-Reliability: Y; DatasheetVersion: Nov-1999; PackageVersion: revF, Apr-2008; PackageReference: MUA08A; PackageDescription: MINI SOIC, .118 x .118 x .034in, 8 Lead, .0256in Pitch; RoHS: Y; PinCount: 8; Code_JEDEC: MO-187-AA; ComponentLink1Description: Manufacturer URL; ComponentLink1URL: http://www.national.com/; ComponentLink2Description: LM2682 Datasheet; ComponentLink2URL: http://www.national.com/ds/LM/LM2682.pdf; ComponentLink3Description: LM2682 Web Page; ComponentLink3URL: http://www.national.com/pf/LM/LM2682.html; ComponentLink4Description: MUA08A Package Page; ComponentLink4URL: http://www.national.com/packaging/folders/mua08a.html
footprint MUA08A_N (TSOP, 8-Leads, Body 3x3mm, Pitch 0.65mm, IPC Medium Density)
footprint MUA08A_L (TSOP, 8-Leads, Body 3x3mm, Pitch 0.65mm, IPC High Density)
footprint MUA08A_M (TSOP, 8-Leads, Body 3x3mm, Pitch 0.65mm, IPC Low Density)
pins: 1 C1- (in), 2 C2+ (in), 3 C2- (in), 4 OUT (power), 5 GND (power), 6 VIN (power), 7 C1+ (in), 8 NC

## LM2687LDX
designator U?
Low Noise Regulated Switched Capacitor Voltage Inverter, 8-pin LLP; PartNumber: LM2687LDX; Manufacturer: National Semiconductor; PackageTopMarking: ZXYTT*L050B; PowerWise: N; CompType: Switch Caps; High-Reliability: Y; DatasheetVersion: Apr-2003; PackageVersion: revC, Nov-2002; PackageReference: LDA08A; PackageDescription: LLP, Plastic, Dual, 3 x 3 x 0.75mm Body, 8 Lead, 0.5mm Pitch; RoHS: N; PinCount: 8; ComponentLink1Description: Manufacturer URL; ComponentLink1URL: http://www.national.com/; ComponentLink2Description: LM2687 Datasheet; ComponentLink2URL: http://www.national.com/ds/LM/LM2687.pdf; ComponentLink3Description: LM2687 Web Page; ComponentLink3URL: http://www.national.com/pf/LM/LM2687.html; ComponentLink4Description: LDA08A Package Page; ComponentLink4URL: http://www.national.com/packaging/folders/lda08a.html
footprint LDA08A (PSON, 8-Leads, Body 3x3mm, Pitch 0.5mm, NSC Recommended)
pins: 1 C1+ (in), 2 GND (power), 3 C1- (in), 4 ~{SD} (in), 5 VNEG (power), 6 VFB (in), 7 OUT (power), 8 VIN (power), 9 DAP (power)

## LM2687LDX/NOPB
designator U?
Low Noise Regulated Switched Capacitor Voltage Inverter, 8-pin LLP, Pb-Free; PartNumber: LM2687LDX/NOPB; Manufacturer: National Semiconductor; PackageTopMarking: ZXYTT*L050B; PowerWise: N; CompType: Switch Caps; High-Reliability: Y; DatasheetVersion: Apr-2003; PackageVersion: revC, Nov-2002; PackageReference: LDA08A; PackageDescription: LLP, Plastic, Dual, 3 x 3 x 0.75mm Body, 8 Lead, 0.5mm Pitch; RoHS: Y; PinCount: 8; ComponentLink1Description: Manufacturer URL; ComponentLink1URL: http://www.national.com/; ComponentLink2Description: LM2687 Datasheet; ComponentLink2URL: http://www.national.com/ds/LM/LM2687.pdf; ComponentLink3Description: LM2687 Web Page; ComponentLink3URL: http://www.national.com/pf/LM/LM2687.html; ComponentLink4Description: LDA08A Package Page; ComponentLink4URL: http://www.national.com/packaging/folders/lda08a.html
footprint LDA08A (PSON, 8-Leads, Body 3x3mm, Pitch 0.5mm, NSC Recommended)
pins: 1 C1+ (in), 2 GND (power), 3 C1- (in), 4 ~{SD} (in), 5 VNEG (power), 6 VFB (in), 7 OUT (power), 8 VIN (power), 9 DAP (power)

## LM2687MM
designator U?
Low Noise Regulated Switched Capacitor Voltage Inverter, 8-pin Mini SOIC; PartNumber: LM2687MM; Manufacturer: National Semiconductor; PackageTopMarking: ZXTT*S12A; PowerWise: N; CompType: Switch Caps; High-Reliability: Y; DatasheetVersion: Apr-2003; PackageVersion: revF, Apr-2008; PackageReference: MUA08A; PackageDescription: MINI SOIC, .118 x .118 x .034in, 8 Lead, .0256in Pitch; RoHS: N; PinCount: 8; Code_JEDEC: MO-187-AA; ComponentLink1Description: Manufacturer URL; ComponentLink1URL: http://www.national.com/; ComponentLink2Description: LM2687 Datasheet; ComponentLink2URL: http://www.national.com/ds/LM/LM2687.pdf; ComponentLink3Description: LM2687 Web Page; ComponentLink3URL: http://www.national.com/pf/LM/LM2687.html; ComponentLink4Description: MUA08A Package Page; ComponentLink4URL: http://www.national.com/packaging/folders/mua08a.html
footprint MUA08A_N (TSOP, 8-Leads, Body 3x3mm, Pitch 0.65mm, IPC Medium Density)
footprint MUA08A_L (TSOP, 8-Leads, Body 3x3mm, Pitch 0.65mm, IPC High Density)
footprint MUA08A_M (TSOP, 8-Leads, Body 3x3mm, Pitch 0.65mm, IPC Low Density)
pins: 1 C1+ (in), 2 GND (power), 3 C1- (in), 4 ~{SD} (in), 5 VNEG (power), 6 VFB (in), 7 OUT (power), 8 VIN (power)

## LM2687MM/NOPB
designator U?
Low Noise Regulated Switched Capacitor Voltage Inverter, 8-pin Mini SOIC, Pb-Free; PartNumber: LM2687MM/NOPB; Manufacturer: National Semiconductor; PackageTopMarking: ZXTT*S12A; PowerWise: N; CompType: Switch Caps; High-Reliability: Y; DatasheetVersion: Apr-2003; PackageVersion: revF, Apr-2008; PackageReference: MUA08A; PackageDescription: MINI SOIC, .118 x .118 x .034in, 8 Lead, .0256in Pitch; RoHS: Y; PinCount: 8; Code_JEDEC: MO-187-AA; ComponentLink1Description: Manufacturer URL; ComponentLink1URL: http://www.national.com/; ComponentLink2Description: LM2687 Datasheet; ComponentLink2URL: http://www.national.com/ds/LM/LM2687.pdf; ComponentLink3Description: LM2687 Web Page; ComponentLink3URL: http://www.national.com/pf/LM/LM2687.html; ComponentLink4Description: MUA08A Package Page; ComponentLink4URL: http://www.national.com/packaging/folders/mua08a.html
footprint MUA08A_N (TSOP, 8-Leads, Body 3x3mm, Pitch 0.65mm, IPC Medium Density)
footprint MUA08A_L (TSOP, 8-Leads, Body 3x3mm, Pitch 0.65mm, IPC High Density)
footprint MUA08A_M (TSOP, 8-Leads, Body 3x3mm, Pitch 0.65mm, IPC Low Density)
pins: 1 C1+ (in), 2 GND (power), 3 C1- (in), 4 ~{SD} (in), 5 VNEG (power), 6 VFB (in), 7 OUT (power), 8 VIN (power)

## LM2687MMX
designator U?
Low Noise Regulated Switched Capacitor Voltage Inverter, 8-pin Mini SOIC; PartNumber: LM2687MMX; Manufacturer: National Semiconductor; PackageTopMarking: ZXTT*S12A; PowerWise: N; CompType: Switch Caps; High-Reliability: Y; DatasheetVersion: Apr-2003; PackageVersion: revF, Apr-2008; PackageReference: MUA08A; PackageDescription: MINI SOIC, .118 x .118 x .034in, 8 Lead, .0256in Pitch; RoHS: N; PinCount: 8; Code_JEDEC: MO-187-AA; ComponentLink1Description: Manufacturer URL; ComponentLink1URL: http://www.national.com/; ComponentLink2Description: LM2687 Datasheet; ComponentLink2URL: http://www.national.com/ds/LM/LM2687.pdf; ComponentLink3Description: LM2687 Web Page; ComponentLink3URL: http://www.national.com/pf/LM/LM2687.html; ComponentLink4Description: MUA08A Package Page; ComponentLink4URL: http://www.national.com/packaging/folders/mua08a.html
footprint MUA08A_N (TSOP, 8-Leads, Body 3x3mm, Pitch 0.65mm, IPC Medium Density)
footprint MUA08A_L (TSOP, 8-Leads, Body 3x3mm, Pitch 0.65mm, IPC High Density)
footprint MUA08A_M (TSOP, 8-Leads, Body 3x3mm, Pitch 0.65mm, IPC Low Density)
pins: 1 C1+ (in), 2 GND (power), 3 C1- (in), 4 ~{SD} (in), 5 VNEG (power), 6 VFB (in), 7 OUT (power), 8 VIN (power)

## LM2687MMX/NOPB
designator U?
Low Noise Regulated Switched Capacitor Voltage Inverter, 8-pin Mini SOIC, Pb-Free; PartNumber: LM2687MMX/NOPB; Manufacturer: National Semiconductor; PackageTopMarking: ZXTT*S12A; PowerWise: N; CompType: Switch Caps; High-Reliability: Y; DatasheetVersion: Apr-2003; PackageVersion: revF, Apr-2008; PackageReference: MUA08A; PackageDescription: MINI SOIC, .118 x .118 x .034in, 8 Lead, .0256in Pitch; RoHS: Y; PinCount: 8; Code_JEDEC: MO-187-AA; ComponentLink1Description: Manufacturer URL; ComponentLink1URL: http://www.national.com/; ComponentLink2Description: LM2687 Datasheet; ComponentLink2URL: http://www.national.com/ds/LM/LM2687.pdf; ComponentLink3Description: LM2687 Web Page; ComponentLink3URL: http://www.national.com/pf/LM/LM2687.html; ComponentLink4Description: MUA08A Package Page; ComponentLink4URL: http://www.national.com/packaging/folders/mua08a.html
footprint MUA08A_N (TSOP, 8-Leads, Body 3x3mm, Pitch 0.65mm, IPC Medium Density)
footprint MUA08A_L (TSOP, 8-Leads, Body 3x3mm, Pitch 0.65mm, IPC High Density)
footprint MUA08A_M (TSOP, 8-Leads, Body 3x3mm, Pitch 0.65mm, IPC Low Density)
pins: 1 C1+ (in), 2 GND (power), 3 C1- (in), 4 ~{SD} (in), 5 VNEG (power), 6 VFB (in), 7 OUT (power), 8 VIN (power)

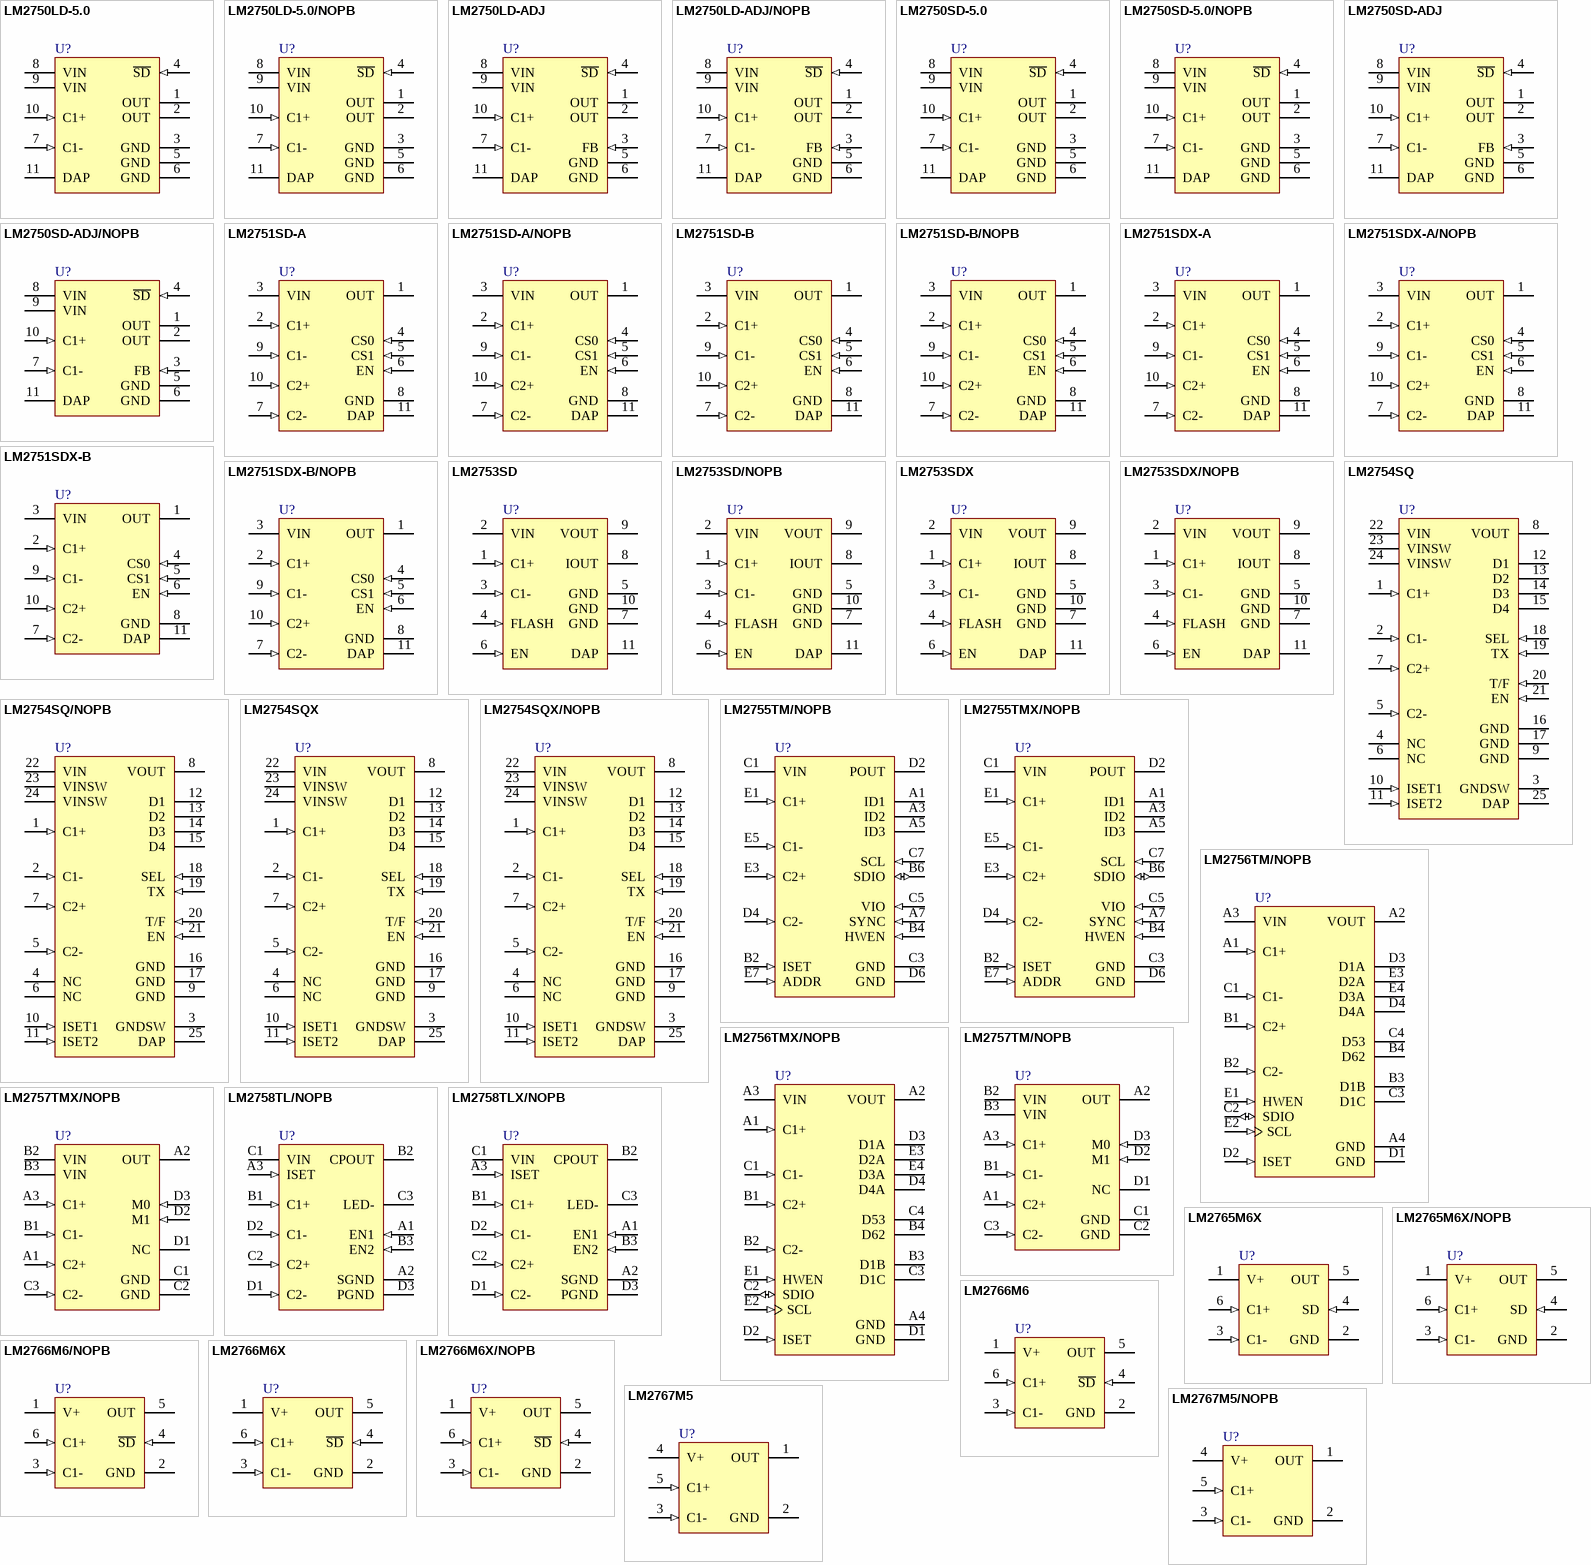
[diagram p1: symbols LM2750LD-5.0 to LM2767M5/NOPB]